# Altium footprint library RC2512JK-7W200RL.PcbLib: 1 footprints
Each footprint in its own frame and in the unit in brackets; x right, y up, seen from the top. Pads: shape width x height; smd on the part's side, far side on the other; paste and mask are expansions set on the pad; w line width, h text height; cw(c..) or ccw(c..) is an arc to the next point about the centre after c.
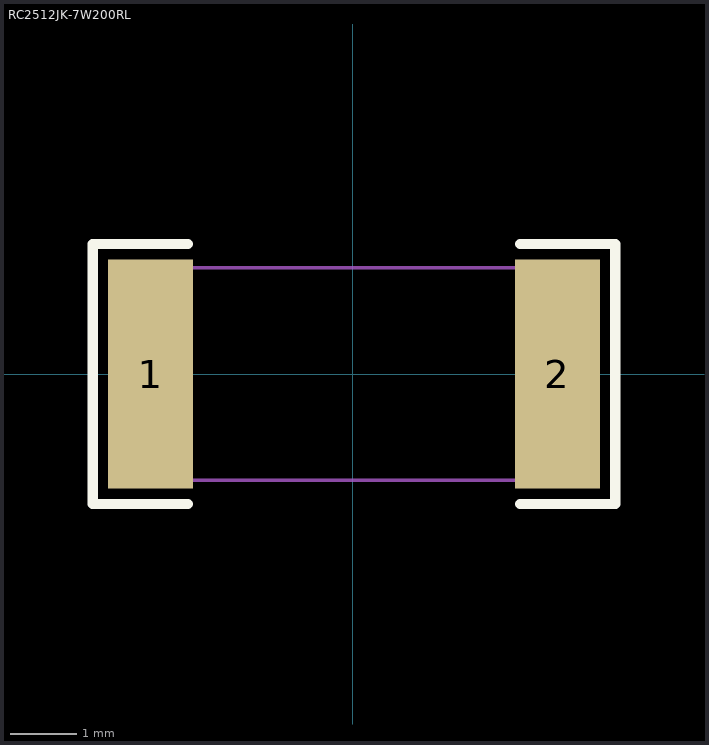
[diagram p0: the footprint, top view; thin cyan lines are the x and y axes]

## RC2512JK-7W200RL [mil]
pads (2):
  rect 50.49x136.06 smd paste-3937.01 mask+2: 1(-120,0) 2(121.44,0)
Top Overlay:
  lines w6: -97.75,-77.03 -154.25,-77.03 -154.25,77.03 -97.75,77.03 ; 99.19,-77.03 155.69,-77.03 155.69,77.03 99.19,77.03
Top Paste:
  region: -94.75,-64.09 -94.75,-27.07 -98.69,-23.13 -107.98,-23.13 -111.92,-19.19 -111.92,19.19 -107.98,23.13 -98.69,23.13 -94.75,27.07 -94.75,64.09 -98.69,68.03 -141.31,68.03 -145.25,64.09 -145.25,-64.09 -141.31,-68.03 -98.69,-68.03
  region: 96.19,-64.09 96.19,-27.07 100.13,-23.13 109.42,-23.13 113.36,-19.19 113.36,19.19 109.42,23.13 100.13,23.13 96.19,27.07 96.19,64.09 100.13,68.03 142.75,68.03 146.69,64.09 146.69,-64.09 142.75,-68.03 100.13,-68.03
Mechanical 15:
  region: 101.11,-62.99 101.11,62.99 124.74,62.99 124.74,-62.99
  region: -123.3,-62.99 -123.3,62.99 -99.67,62.99 -99.67,-62.99
  region: -121.92,-62.99 -121.92,-62.01 -123.3,-60.63 -125.26,-60.63 -126.65,-62.01 -126.65,-62.99 -126.65,-63.97 -125.26,-65.35 -123.3,-65.35 -121.92,-63.97 -121.92,-62.99
  lines w2: -123.3,-62.99 124.74,-62.99 124.74,62.99 -123.3,62.99 -123.3,-62.99